# Altium footprint library Figaro.PcbLib: 1 footprints
Each footprint in its own frame and in the unit in brackets; x right, y up, seen from the top. Pads: shape width x height; smd on the part's side, far side on the other; paste and mask are expansions set on the pad; w line width, h text height; cw(c..) or ccw(c..) is an arc to the next point about the centre after c.
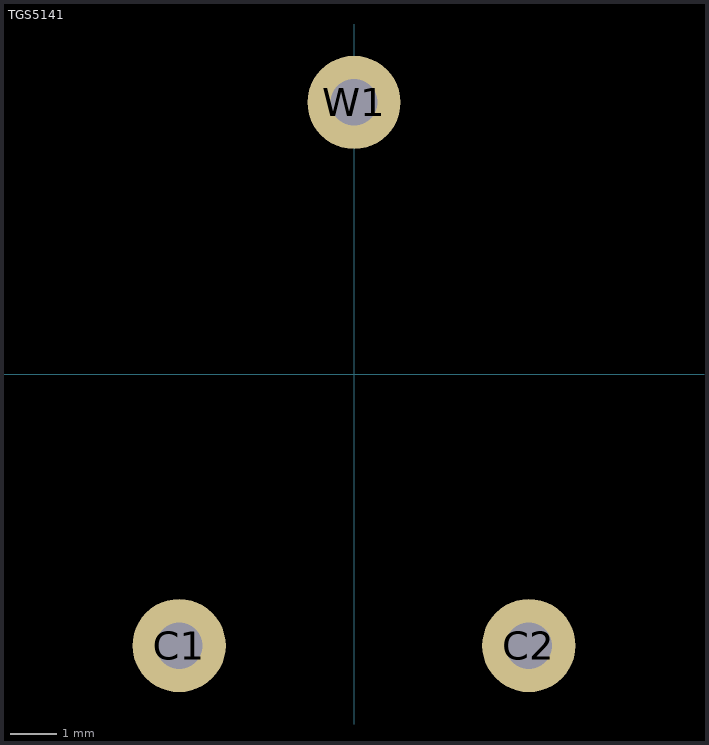
[diagram p0: the footprint, top view; thin cyan lines are the x and y axes]

## TGS5141 [mm] "CO sensor"
pads (3):
  round 2 hole 1: C1(-3.75,-5.825) C2(3.75,-5.825) W1(0,5.825)
3D body: height 7, standoff -3.8, extent -6.975,-5.95 6.925,8.7